# EAGLE library part SIMLOCK492-8 (library JLB6_Connec)
Support SIM 8 contacts Amphenol 492
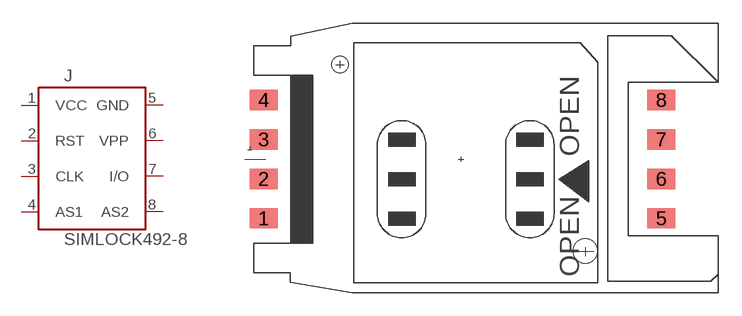
[diagram p24: symbol with the pads of 5002-8; footprint 5002-8]

Designator prefix J

## SIMLOCK492-8  [5002-8]
1  VCC
2  RST
3  CLK
4  AS1
5  GND
6  VPP
7  I/O
8  AS2

## Footprint 5002-8 (pad centres in mm)
smd 1.8 x 1.3: 1 -12.71,-3.81; 2 -12.71,-1.27; 3 -12.71,1.27; 4 -12.71,3.81; 5 12.89,-3.81; 6 12.89,-1.27; 7 12.89,1.27; 8 12.89,3.81
hole 1.067 at -7.798,6.096
hole 1.575 at 8.001,-5.918